# Altium footprint library QFN-28 (4x4).PcbLib: 1 footprints
Each footprint in its own frame and in the unit in brackets; x right, y up, seen from the top. Pads: shape width x height; smd on the part's side, far side on the other; paste and mask are expansions set on the pad; w line width, h text height; cw(c..) or ccw(c..) is an arc to the next point about the centre after c.
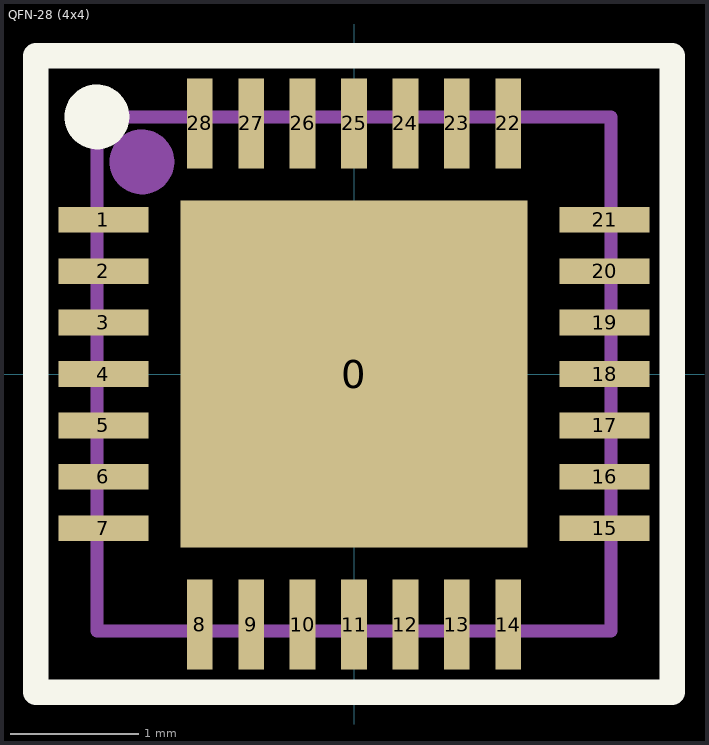
[diagram p0: the footprint, top view; thin cyan lines are the x and y axes]

## QFN-28 (4x4) [mm]
height 0.55
pads (29):
  rect 2.7x2.7 smd mask+0.05: 0(0,0)
  rect 0.7x0.2 smd mask+0.05: 1(-1.95,1.2) 2(-1.95,0.8) 3(-1.95,0.4) 4(-1.95,0) 5(-1.95,-0.4) 6(-1.95,-0.8) 7(-1.95,-1.2) 15(1.95,-1.2) 16(1.95,-0.8) 17(1.95,-0.4) 18(1.95,0) 19(1.95,0.4) 20(1.95,0.8) 21(1.95,1.2)
  rect 0.2x0.7 smd mask+0.05: 8(-1.2,-1.95) 9(-0.8,-1.95) 10(-0.4,-1.95) 11(0,-1.95) 12(0.4,-1.95) 13(0.8,-1.95) 14(1.2,-1.95) 22(1.2,1.95) 23(0.8,1.95) 24(0.4,1.95) 25(0,1.95) 26(-0.4,1.95) 27(-0.8,1.95) 28(-1.2,1.95)
Top Overlay:
  circle w0.254: c-2,2 r0.125
  lines w0.2: -2.475,-2.475 2.475,-2.475 2.475,2.475 -2.475,2.475 -2.475,-2.475
Top Assembly:
  circle w0.254: c-1.65,1.65 r0.125
  lines w0.1: -2,-2 2,-2 2,2 -2,2 -2,-2
  text "'.Designator'" at 0,0 h0.7
3D body "User Library-QFN28-0_4.STEP": height 0.75, standoff 0, extent -2,-2 2,2